# Altium schematic symbol library KitArmM0.SCHLIB: 27 symbols
Pins are listed as number, name and electrical type; pins without a type are passive.

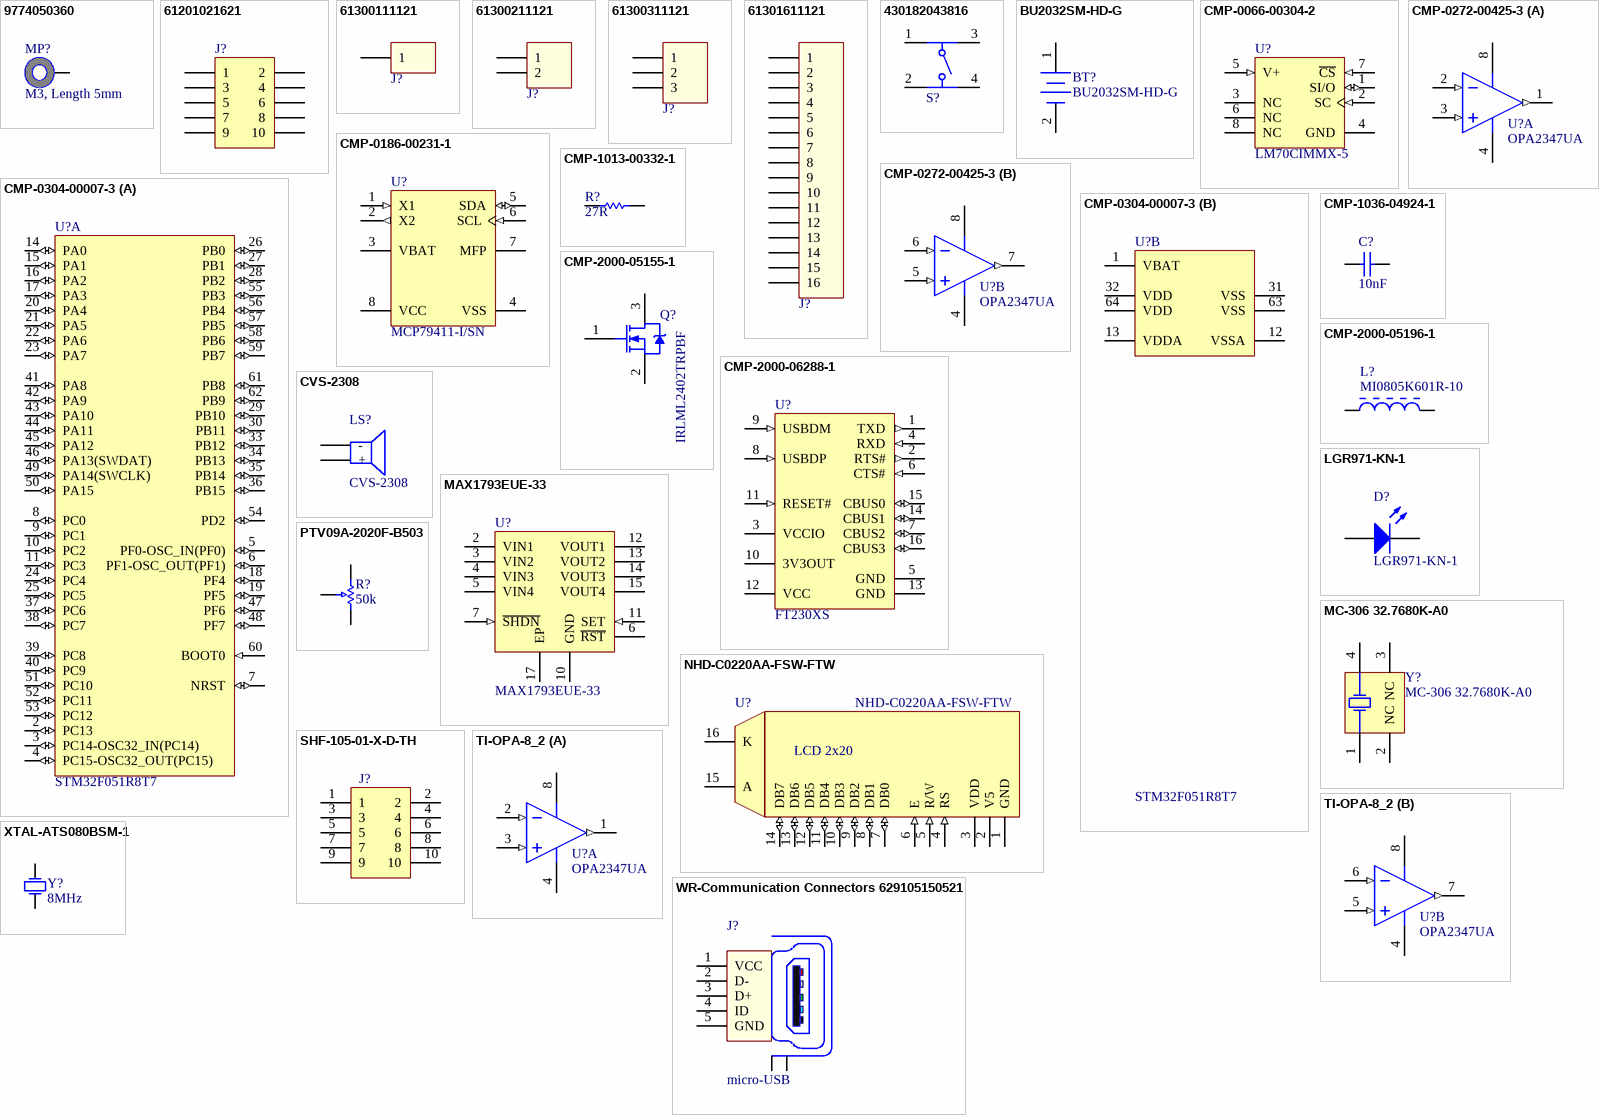
[diagram p0: symbols 9774050360 to XTAL-ATS080BSM-1]

## 9774050360
designator MP?, comment M3, Length 5mm
WA-SMSI SMT Steel Spacer, M3 Thread Internal, Length 5mm; PartNumber: 9774050360; InnerDiameter: 4.2mm; OuterDiameter: 6mm; PublishedDate: Dec. 2016; Publisher: Wurth Elektronik; ComponentLink1Description: Manufacturer; ComponentLink1URL: http://www.we-online.de; ComponentLink2Description: Datasheet; ComponentLink2URL: http://katalog.we-online.de/em/datasheet/9774050360.pdf; Length: 5mm; Thread: M3; Packaging: Bulk; Supplier: Stock ES
footprint 9774050360
pins: 1

## 61201021621
designator J?  (value not drawn)
WR-BHD 2.54mm Male Box Header; Manufacturer: Wurth Elektronik; ComponentLink1 Description: Manufacturer; ComponentLink2 Description: Datasheet; NoPins: 10; Created Date: March 2016; partNo: 61201021621; ComponentLink1URL: http://www.we-online.com; ComponentLink2URL: http://katalog.we-online.de/em/datasheet/6120xx21621.pdf; Created by: Baojun Chen; Supplier: Digikey,Stock ES
footprint 61201021621 (10 pins, straight, gold plating)
pins: 1, 2, 3, 4, 5, 6, 7, 8, 9, 10

## 61300111121
designator J?  (value not drawn)
WR-PHD 2.54 mm THT Pin Header, 1p; Pin Number: 1; Rated Current: 3 A; Working Voltage: 250 VAC; Withstanding Voltage: 500 VAC; Pitch: 2.54 mm; ComponentLink1Description: Manufacturer; ComponentLink1URL: http://www.we-online.de; ComponentLink2Description: Datasheet; ComponentLink2URL: http://katalog.we-online.de/em/datasheet/6130xx11121.pdf; Part Number: 61300111121; Published Date: Aug 2017; Publisher: Wurth Elektronik; Supplier: Stock ES
footprint 61300111121
pins: 1

## 61300211121
designator J?  (value not drawn)
WR-PHD 2.54 mm THT Pin Header, 2p; Pin Number: 2; Rated Current: 3 A; Working Voltage: 250 VAC; Withstanding Voltage: 500 VAC; Pitch: 2.54 mm; ComponentLink1Description: Manufacturer; ComponentLink1URL: http://www.we-online.de; ComponentLink2Description: Datasheet; ComponentLink2URL: http://katalog.we-online.de/em/datasheet/6130xx11121.pdf; Part Number: 61300211121; Published Date: Aug 2017; Publisher: Wurth Elektronik; Supplier: Stock ES
footprint 61300211121
pins: 1, 2

## 61300311121
designator J?  (value not drawn)
WR-PHD 2.54 mm THT Pin Header, 3p; Pin Number: 3; Rated Current: 3 A; Working Voltage: 250 VAC; Withstanding Voltage: 500 VAC; Pitch: 2.54 mm; ComponentLink1Description: Manufacturer; ComponentLink1URL: http://www.we-online.de; ComponentLink2Description: Datasheet; ComponentLink2URL: http://katalog.we-online.de/em/datasheet/6130xx11121.pdf; Part Number: 61300311121; Published Date: Aug 2017; Publisher: Wurth Elektronik; Supplier: Stock ES
footprint 61300311121
pins: 1, 2, 3

## 61301611121
designator J?  (value not drawn)
WR-PHD 2.54 mm THT Pin Header, 16p; Pin Number: 16; Rated Current: 3 A; Working Voltage: 250 VAC; Withstanding Voltage: 500 VAC; Pitch: 2.54 mm; ComponentLink1Description: Manufacturer; ComponentLink1URL: http://www.we-online.de; ComponentLink2Description: Datasheet; ComponentLink2URL: http://katalog.we-online.de/em/datasheet/6130xx11121.pdf; Part Number: 61301611121; Published Date: Aug 2017; Publisher: Wurth Elektronik; Supplier: Stock ES
footprint 61301611121
pins: 1, 2, 3, 4, 5, 6, 7, 8, 9, 10, 11, 12, 13, 14, 15, 16

## 430182043816
designator S?  (value not drawn)
WS-TASV 6x6mm Tact Switch, SMD version; Operation Force: 160g; ComponentLink1Description: Manufacturer; ComponentLink1URL: http://www.we-online.de; ComponentLink2Description: Datasheet; ComponentLink2URL: http://katalog.we-online.de/em/datasheet/4301x2xxx8x6.pdf; Part Number: 430182043816; Published Date: June 2017; Publisher: Wurth Elektronik; Life Cycle: 1000000 cycles; Size: 6x6x4.3 mm; Supplier: Stock ES
footprint 4301x20438x6_6x6x4.3 (6x6mm Tact Switch, SMD version)
pins: 1, 2, 3, 4

## BU2032SM-HD-G
designator BT?
CR2032 Battery holder; Published: 24-Mar-1999; LatestRevisionDate: 17-Jul-2002; LatestRevisionNote: Re-released for DXP Platform.; PackageReference: BAT-2; Publisher: Altium Limited; PackageDescription: Battery; 2 Leads; Supplier: Digikey,Stock ES; Supplier Ref.: BU2032SM-HD-GCT-ND; Supplier min. qty: 1; Supplier unit price: 0.87
footprint BU2032SM-HD-G (CR2032 BATTERY HOLDER)
pins: 1 +, 2 -

## CMP-0066-00304-2
designator U?, comment LM70CIMMX-5
SPI/10-Bit plus Sign Digital Temperature Sensor, 8-pin Mini SOIC; Manufacturer: National Semiconductor; PackageTopMarking: ZXTT*T03C; PowerWise: Y; CompType: Temp Sensor IC; PinCount: 8; ComponentLink1URL: http://www.national.com/ds/LM/LM70.pdf; PackageVersion: revF, Apr-2008; RevisionNote: Component URLs added; ComponentLink3Description: MUA08A Package Page; ComponentLink3URL: http://www.national.com/packaging/folders/mua08a.html; Code_JEDEC: MO-187-AA; ComponentLink2Description: LM70 Web Page; ComponentLink1Description: LM70 Datasheet; PackageReference: MUA08A; DatasheetVersion: Feb-2010; ComponentLink2URL: http://www.national.com/pf/LM/LM70.html; RoHS: N; PackageDescription: MINI SOIC, .118 x .118 x .034in, 8 Lead, .0256in Pitch; Digikey ID: LM70CIMMX-3/NOPBCT-ND; Supplier: Digikey,Stock ES; Supplier Ref.: 296-38145-1-ND; Supplier min. qty: 1; Supplier unit price: 2.81
footprint MUA08A_L (TSOP, 8-Leads, Body 3x3mm, Pitch 0.65mm, IPC High Density)
footprint MUA08A_N (TSOP, 8-Leads, Body 3x3mm, Pitch 0.65mm, IPC Medium Density)
footprint MUA08A_M (TSOP, 8-Leads, Body 3x3mm, Pitch 0.65mm, IPC Low Density)
pins: 1 SI/O (io), 2 SC (in), 3 NC, 4 GND (power), 5 V+ (in), 6 NC, 7 ~{CS} (in), 8 NC

## CMP-0186-00231-1
designator U?, comment MCP79411-I/SN
I2C Real-Time Clock/Calendar with EEPROM, SRAM, Unique ID and Battery Switchover, 8-Pin SOIC, Industrial Temperature; ComponentLink2Description: Datasheet; ComponentLink3Description: Package Specification; PackageVersion: revBB, Aug-2009; ComponentLink3URL: http://www.microchip.com/stellent/groups/techpub_sg/documents/packagingspec/en012702.pdf; ComponentLink1Description: Manufacturer URL; ComponentLink1URL: http://www.microchip.com/; ComponentLink2URL: http://ww1.microchip.com/downloads/en/DeviceDoc/22266D.pdf; Code_JEDEC: MS-012; PackageReference: SOIC-SN8; PackageDescription: 8-Lead Plastic Small Outline (SN) - Narrow, 3.90mm Body [SOIC]; DatasheetVersion: revD, Dec-2011; Code_IPC: SOIC127P600-8; Supplier: Digikey; Supplier Ref.: MCP79411-I/SN-ND; Supplier min. qty: 1; Supplier unit price: 1.01
footprint SOIC-SN8_N (SOIC, 8-Leads, Body 4.9x3.8mm, Pitch 1.27mm, IPC Medium Density)
footprint SOIC-SN8_M (SOIC, 8-Leads, Body 4.9x3.8mm, Pitch 1.27mm, IPC Low Density)
footprint SOIC-SN8_L (SOIC, 8-Leads, Body 4.9x3.8mm, Pitch 1.27mm, IPC High Density)
pins: 1 X1 (in), 2 X2 (out), 3 VBAT (power), 4 VSS (power), 5 SDA (io), 6 SCL (in), 7 MFP (oc), 8 VCC (power)

## CMP-0272-00425-3
designator U?, comment OPA2347UA
MicroPower, Rail-to-Rail Operational Amplifier, 2.3 to 5.5 V, -55 to 125 degC, 8-pin SOIC (D8), Green (RoHS & no Sb/Br); Manufacturer: Texas Instruments; Number of Channels: 2; Rating: Catalog; Sub Family: Low Input Bias Current Amp (<=10pA), Low Power Amp (<=500uA), Low Supply Voltage Amplifier (<=2.7V), Precision Amplifier; GBW(Typ)(MHz): 0.35; Iq per channel(Max)(mA): 0.034; Packing: TUBE; Total Supply Voltage(Min)(+5V is 5, +/-5V is 10): 2.3; Offset Drift(Typ)(uV/C): 3; IIB(Max)(pA): 10; Total Supply Voltage(Max)(+5V is 5, +/-5V is 10): 5.5; Slew Rate(Typ)(V/us): 0.17; CMRR(Min)(dB): 70; Vio (25C)(Max)(mV): 6; PackageVersion: 4040047-3/M, 06/2011; ComponentLink3Description: Package Specification; ComponentLink2Description: Datasheet; ComponentLink2URL: http://www.ti.com/lit/ds/symlink/opa2347.pdf; Mounting Technology: Surface Mount; ComponentLink3URL: http://www.ti.com/litv/pdf/msoi002j; PackageReference: D0008A; DatasheetVersion: SBOS167D; ComponentLink1Description: Manufacturer URL; ComponentLink1URL: http://www.ti.com/; Eco-Plan: Green (RoHS & no Sb/Br); Code_JEDEC: MS-012; PartNumber: OPA2347UA; PackageDescription: 8-Pin Plastic Small Outline, Body 4.9 x 3.9 mm, Pitch 1.27 mm; Supplier: Digikey; Supplier Ref.: OPA2347UACT-ND; Supplier min. qty: 1; Supplier unit price: 1.15
footprint D0008A_M (SOIC, 8-Leads, Body 5x4mm, Pitch 1.27mm, IPC Low Density)
footprint D0008A_L (SOIC, 8-Leads, Body 5x4mm, Pitch 1.27mm, IPC High Density)
footprint D0008A_N (SOIC, 8-Leads, Body 5x4mm, Pitch 1.27mm, IPC Medium Density)
pins on every part: 4 V- (power), 8 V+ (power)
part A pins: 1 OUT A (out), 2 IN A- (in), 3 IN A+ (in)
part B pins: 5 IN B+ (in), 6 IN B- (in), 7 OUT B (out)

## CMP-0304-00007-3
designator U?, comment STM32F051R8T7
ARM Cortex-M0 32-bit MCU, 64 KB Flash, 8 KB Internal RAM, 55 I/Os, 64-pin LQFP, -40 to 105 degC, Tray; Internal RAM Size (kB): 8; Supply Voltage(Vcc) min (V): 2; FLASH Size (Prog) (kB): 64; Operating Frequency(F) (Processor speed) (MHz): 48; I/Os (High Current): 55; ComponentLink1URL: http://www.st.com/web/en/home.html; PackageVersion: Rev. 4, 06/2013; ComponentLink3Description: Package Specification; ComponentLink2URL: http://www.st.com/st-web-ui/static/active/en/resource/technical/document/datasheet/DM00039193.pdf; Mounting Technology: Surface Mount; Core: ARM Cortex-M0; ComponentLink2Description: Datasheet; Packing: Tray; PartNumber: STM32F051R8T7; PackageReference: LQFP64; PackageDescription: 64-Pin Low Profile Quad Flat Package, 10 x 10 mm Body, 0.5 mm Pitch; DatasheetVersion: Rev. 3; ComponentLink3URL: http://www.st.com/st-web-ui/static/active/en/resource/technical/document/datasheet/DM00037051.pdf; ComponentLink1Description: Manufacturer URL; Supplier: Digikey; Supplier Ref.: 497-13628-1-ND; Supplier min. qty: 1; Supplier unit price: 3.37
footprint STM-LQFP64_M (Thin QFP, 64-Leads, Body 10x10mm, Pitch 0.5mm, IPC Low Density)
footprint STM-LQFP64_L (Thin QFP, 64-Leads, Body 10x10mm, Pitch 0.5mm, IPC High Density)
footprint STM-LQFP64_N (Thin QFP, 64-Leads, Body 10x10mm, Pitch 0.5mm, IPC Medium Density)
footprint STM-LQFP64_V (Thin QFP, 64-Leads, Body 10x10mm, Pitch 0.5mm, ST Recommended)
part A pins: 2 PC13 (io) "PC13/RTC_TAMP1,RTC_TS,RTC_OUT,WKUP2", 3 PC14-OSC32_IN(PC14) (io) "PC14-OSC32_IN(PC14)/OSC32_IN", 4 PC15-OSC32_OUT(PC15) (io) "PC15-OSC32_OUT(PC15)/OSC32_OUT", 5 PF0-OSC_IN(PF0) (io) "PF0-OSC_IN(PF0)/OSC_IN", 6 PF1-OSC_OUT(PF1) (io) "PF1-OSC_OUT(PF1)/OSC_OUT", 7 NRST (io) "Device reset input / internal reset output (active low)", 8 PC0 (io) "PB15/SPI2_MOSI,TIM1_CH3N,TIM15_CH1N,TIM15_CH2/RTC_REFIN", 9 PC1 (io) "PC1/EVENTOUT/ADC_IN11", 10 PC2 (io) "PC2/EVENTOUT/ADC_IN12", 11 PC3 (io) "PC3/EVENTOUT/ADC_IN13", 14 PA0 (io) "PA0/USART2_CTS,TIM2_CH1_ETR,COMP1_OUT,TSC_G1_IO1/ADC_IN0,COMP1_INM6,RTC_TAMP2,WKUP1", 15 PA1 (io) "PA1/USART2_RTS,TIM2_CH2,TSC_G1_IO2,EVENTOUT/ADC_IN1,COMP1_INP", 16 PA2 (io) "PA2/USART2_TX,TIM2_CH3,TIM15_CH1,COMP2_OUT,TSC_G1_IO3/ADC_IN2,COMP2_INM6", 17 PA3 (io) "PA3/USART2_RX,TIM2_CH4,TIM15_CH2,TSC_G1_IO4/ADC_IN3,COMP2_INP", 18 PF4 (io) "PF4/EVENTOUT", 19 PF5 (io) "PF5/EVENTOUT", 20 PA4 (io) "PA4/SPI1_NSS/I2S1_WS,USART2_CK,TIM14_CH1,TSC_G2_IO1/ADC_IN4,COMP1_INM4,COMP2_INM4,DAC1_OUT", 21 PA5 (io) "PA5/SPI1_SCK/I2S1_CK,CEC,TIM2_CH1_ETR,TSC_G2_IO2/ADC_IN5,COMP1_INM5,COMP2_INM5", 22 PA6 (io) "PA6/SPI1_MISO/I2S1_MCK,TIM3_CH1,TIM1_BKIN,TIM16_CH1,COMP1_OUT,TSC_G2_IO3,EVENTOUT/ADC_IN6", 23 PA7 (io) "PA7/SPI1_MOSI/I2S1_SD,TIM3_CH2,TIM14_CH1,TIM1_CH1N,TIM17_CH1,COMP2_OUT,TSC_G2_IO4,EVENTOUT/ADC_IN7", 24 PC4 (io) "PC4/EVENTOUT/ADC_IN14", 25 PC5 (io) "PC5/TSC_G3_IO1/ADC_IN15", 26 PB0 (io) "PB0/TIM3_CH3,TIM1_CH2N,TSC_G3_IO2,EVENTOUT/ADC_IN8", 27 PB1 (io) "PB1/TIM3_CH4,TIM14_CH1,TIM1_CH3N,TSC_G3_IO3/ADC_IN9", 28 PB2 (io) "PB2/TSC_G3_IO4", 29 PB10 (io) "PB10/I2C2_SCL,CEC,TIM2_CH3,TSC_SYNC", 30 PB11 (io) "PB11/I2C2_SDA,TIM2_CH4,TSC_G6_IO1,EVENTOUT", 33 PB12 (io) "PB8/I2C1_SCL,CEC,TIM16_CH1,TSC_SYNC", 34 PB13 (io) "PB12/SPI2_NSS,TIM1_BKIN,TSC_G6_IO2,EVENTOUT", 35 PB14 (io) "PB13/SPI2_SCK,TIM1_CH1N,TSC_G6_IO3", 36 PB15 (io) "PB14/SPI2_MISO,TIM1_CH2N,TIM15_CH1,TSC_G6_IO4", 37 PC6 (io) "PC6/TIM3_CH1", 38 PC7 (io) "PC7/TIM3_CH2", 39 PC8 (io) "PC8/TIM3_CH3", 40 PC9 (io) "PC9/TIM3_CH4", 41 PA8 (io) "PA8/USART1_CK,TIM1_CH1,EVENTOUT,MCO", 42 PA9 (io) "PA9/USART1_TX,TIM1_CH2,TIM15_BKIN,TSC_G4_IO1", 43 PA10 (io) "PA10/USART1_RX,TIM1_CH3,TIM17_BKIN,TSC_G4_IO2", 44 PA11 (io) "PA11/USART1_CTS,TIM1_CH4,COMP1_OUT,TSC_G4_IO3,EVENTOUT", 45 PA12 (io) "PA12/USART1_RTS,TIM1_ETR,COMP2_OUT,TSC_G4_IO4,EVENTOUT", 46 PA13(SWDAT) (io) "PA13(SWDAT)/IR_OUT,SWDAT", 47 PF6 (io) "PF6/I2C2_SCL", 48 PF7 (io) "PF7/I2C2_SDA", 49 PA14(SWCLK) (io) "PA14(SWCLK)/USART2_TX,SWCLK", 50 PA15 (io) "PA15/SPI1_NSS/I2S1_WS,USART2_RX,TIM2_CH1_ETR,EVENTOUT", 51 PC10 (io), 52 PC11 (io), 53 PC12 (io), 54 PD2 (io) "PD2/TIM3_ETR", 55 PB3 (io) "PB3/SPI1_SCK/I2S1_CK,TIM2_CH2,TSC_G5_IO1,EVENTOUT", 56 PB4 (io) "PB4/SPI1_MISO/I2S1_MCK,TIM3_CH1,TSC_G5_IO2,EVENTOUT", 57 PB5 (io) "PB5/SPI1_MOSI,I2S1_SD,I2C1_SMBA,TIM16_BKIN,TIM3_CH2", 58 PB6 (io) "PB6/I2C1_SCL,USART1_TX,TIM16_CH1N,TSC_G5_IO3", 59 PB7 (io) "PB7/I2C1_SDA,USART1_RX,TIM17_CH1N,TSC_G5_IO4", 60 BOOT0 (in) "Boot memory selection", 61 PB8 (io) "PB8/I2C1_SCL,CEC,TIM16_CH1,TSC_SYNC", 62 PB9 (io) "PB9/I2C1_SDA,IR_OUT,TIM17_CH1,EVENTOUT"
part B pins: 1 VBAT (power) "Backup power supply", 12 VSSA (power) "Analog ground", 13 VDDA (power) "Analog power supply", 31 VSS (power) "Ground", 32 VDD (power) "Digital power supply", 63 VSS (power) "Ground", 64 VDD (power) "Digital power supply"

## CMP-1013-00332-1
designator R?, comment value 27R  (hidden comment: 27R 1% 0805(2012))  (mechanical)
27R 0.125W 1% 0805 (2012 Metric)  SMD; Case-EIA: 0805; Case-Metric: 2012; Power: 0.125 W; Tolerance: 1 %; Technology: SMT; Supplier: Stock ES
footprint RESC0805(2012)_N (Chip Resistor, Body 2.0x1.3mm, IPC Medium Density)
footprint RESC0805(2012)_L (Chip Resistor, Body 2.0x1.3mm, IPC High Density)
footprint RESC0805(2012)_M (Chip Resistor, Body 2.0x1.3mm, IPC Low Density)
pins: 1, 2
1 alternate drawing of the same symbol

## CMP-1036-04924-1
designator C?, comment value 10nF  (hidden comment: CAP 10nF 10V 0805(2012))
CAP 10nF 10V ±20% 0805 (2012 Metric) Thickness 1.45mm SMD; Case-EIA: 0805; Case-Metric: 2012; Tolerance: Â±20%; Rated Voltage: 10 V; Max Thickness: 1.45 mm; Technology: SMT; Supplier: Stock ES
footprint CAPC0805(2012)145_N (Chip Capacitor, Body 2.0x1.2mm, Height 1.45mm, IPC Medium Density)
footprint CAPC0805(2012)145_M (Chip Capacitor, Body 2.0x1.2mm, Height 1.45mm, IPC Low Density)
footprint CAPC0805(2012)145_L (Chip Capacitor, Body 2.0x1.2mm, Height 1.45mm, IPC High Density)
pins: 1, 2
1 alternate drawing of the same symbol

## CMP-2000-05155-1
designator Q?, comment IRLML2402TRPBF
HEXFET(R) Power MOSFET, N-Channel, 20 V, 1.2 A, 3-Pin SOT-23, RoHS, Tape and Reel; Manufacturer: International Rectifier; Voltage Vgs Rds on Measurement: 4.5V; Current Id Max: 1.2A; External Width: 3.05mm; Transistor Polarity: NChannel; No. of Pins: 3; Power Dissipation Pd: 540mW; External Length / Height: 1.12mm; Full Power Rating Temperature: 25degC; On Resistance Rds(on): 250mohm; Voltage Vds Typ: 20V; SMD Marking: 1A; No. of Transistors: 1; Reel Quantity: 3000; External Depth: 2.5mm; Pulse Current Idm: 7.4A; Junction Temperature Tj Min: -55degC; Threshold Voltage Vgs Typ: 700mV; SVHC: NoSVHC(19-Dec-2012); Datasheet URL: https://datasheet.ciiva.com/29326/162826-da-01-en-irlml-2402tr-29326791.pdf; Tape Width: 8mm; Operating Temperature Range: -55degCto+150degC; Manufacturer URL: http://internationalrectifier.com/; Termination Type: SMD; Datasheet Version: Jan-03; Current Temperature: 25degC; Package / Case: SOT-23; Drain Source Voltage Vds: 20V; Rds(on) Test Voltage Vgs: 4.5V; Continuous Drain Current Id: 1.2A; Transistor Case Style: SOT-23; Voltage Vgs th Min: 700mV; Voltage Vgs Max: 700mV; Supplier: Digikey,Stock ES; Supplier Ref.: IRLML2402PBFCT-ND; Supplier min. qty: 1; Supplier unit price: 0.54
footprint INTR-IRLML2402TRPBF-3_V (SOT23, 3-Leads, Body 3.05x1.4mm, Pitch 0.95mm)
pins: 1 G, 2 S, 3 D

## CMP-2000-05196-1
designator L?, comment MI0805K601R-10
Chip Bead for Power Filtering, 1500 mA, 600 Ohm, -40 to 125 degC, 0805 (2012 Metric), RoHS, Tape and Reel; Manufacturer: Laird; Filter Type: PowerLine; Current Rating (Max): 1.5A; Catalog Drawings: (HI,HZ,LI,MI)0805Series_1.10mmMax.Height; Impedance @ Frequency: 600Ohm@100MHz; Number of Lines: 1; DC Resistance (DCR) (Max): 100mOhm; Other Names: 240-2390-1; Kits: 240-2227-ND-KITEMIFERRITEBEADCHIPSMD; Online Catalog: MISeries; Standard Package: 1; Datasheet Version: Rev. A, 01/2004; Height (Max): 0.043"(1.10mm); Category: Filters; Operating Temperature: -40degC~125degC; Package Description: 2-Pin Surface Mount Device, Body 2 x 1.25 mm; Package / Case: 0805(2012Metric); Package Reference: MI0805K601R-10-2; Packaging: CutTape(CT); Ratings: -; Mounting Type: SurfaceMount; Datasheet URL: https://datasheet.ciiva.com/3082/mi0805k601r-10-a-vp-3082219.pdf; Size / Dimension: 0.079"Lx0.049"W(2.00mmx1.25mm); Family: FerriteBeadsandChips; Manufacturer URL: https://www.lairdtech.com; Series: MI; Supplier: Digikey; Supplier Ref.: 240-2390-1-ND; Supplier min. qty: 1; Supplier unit price: 0.11
footprint LIRD-MI0805K601R-10-2_V (Chip Bead, 2-Leads, Body 2.2 x1.45 mm)
pins: 1, 2

## CMP-2000-06288-1
designator U?, comment FT230XS
USB to Basic UART IC, 2.97 to 5.5 V, -40 to 85 degC, 16-Pin SSOP, RoHS; Manufacturer: FTDI; Data Rate: 3Mbaud; USB Standard: USB2.0; USB Type: Transceiver; No. of Pins: 16Pins; Supply Voltage Max: 5.5V; SVHC: NoSVHC(17-Dec-2015); Supply Voltage Min: 2.97V; MSL: MSL3-168hours; Datasheet Version: Rev. 1.4, 05/2016; Interface Case Style: SSOP; Datasheet URL: http://www.ftdichip.com/Support/Documents/DataSheets/ICs/DS_FT230X.pdf; Packaging: CutTape; Package Description: 16-Pin Shrink Small Outline Package Integrated Circuit, Body 4.9 x 3.9 mm, Pitch 0.635 mm; Operating Temperature Min: -40°C; Mounting Technology: SurfaceMount; Package Reference: SSOP-16; Manufacturer URL: http://www.ftdichip.com/; Product Range: -; Operating Temperature Max: 85°C; No. of Ports: -; Supplier: Digikey; Supplier Ref.: 768-1135-1-ND; Supplier min. qty: 1; Supplier unit price: 2.00
footprint FTDI-SSOP-16_L (SOP, 16-Leads, Body 5x4mm, Pitch 0.635mm, IPC High Density)
footprint FTDI-SSOP-16_M (SOP, 16-Leads, Body 5x4mm, Pitch 0.635mm, IPC Low Density)
footprint FTDI-SSOP-16_N (SOP, 16-Leads, Body 5x4mm, Pitch 0.635mm, IPC Medium Density)
pins: 1 TXD (out) "Transmit Asynchronous Data Output.", 2 RTS# (out) "Request to Send Control Output / Handshake Signal.", 3 VCCIO (power) "1V8 - 3V3 supply for the IO cells", 4 RXD (in) "Receiving Asynchronous Data Input.", 5 GND (power) "0V Ground input.", 6 CTS# (in) "Clear To Send Control Input / Handshake Signal.", 7 CBUS2 (io) "Configurable CBUS I/O Pin.", 8 USBDP (in) "USB Data Signal Plus.", 9 USBDM (in) "USB Data Signal Minus.", 10 3V3OUT (power) "3V3 output at 50mA. May be used to power VCCIO.", 11 RESET# (in) "Reset input (active low).", 12 VCC (power) "5 V (or 3V3) supply to IC", 13 GND (power) "0V Ground input.", 14 CBUS1 (io) "Configurable CBUS I/O Pin.", 15 CBUS0 (io) "Configurable CBUS I/O Pin.", 16 CBUS3 (io) "Configurable CBUS I/O Pin."

## CVS-2308
designator LS?
Loudspeaker THT CVS-2308; Published: 24-Mar-1999; LatestRevisionDate: 17-Jul-2002; LatestRevisionNote: Re-released for DXP Platform.; PackageReference: CVS-2308; Publisher: Altium Limited; Supplier: Digikey; Supplier Ref.: 102-2500-ND; Supplier min. qty: 1; Supplier unit price: 2.80
footprint CVS-2308 (Loudspeaker THT CVS-2308)
pins: 1 -, 2 +

## LGR971-KN-1
designator D?
SMD mono-color Chip LED, 0805, Green; Manufacturer: Wuerth Elektronik; PackageReference: 0805_A; Color: Green; PartNumber: LGR971-KN-1; ComponentLink1Description: Manufacturer URL; ComponentLink2Description: Datasheet; Supplier: Stock ES
footprint LED_0805 (Footprint not found)
pins: 1 K, 2 A

## MAX1793EUE-33
designator U?
MAX1793 linear regulator 3.3V; PackageDescription: TSSOP16+exposed pad; ComponentLink3Description: Package Specification; PackageReference: http://pdfserv.maxim-ic.com/package_dwgs/21-0108.PDF; ComponentLink1URL: http://www.maxim-ic.com; ComponentLink2Description: Datasheet; Code_JEDEC: MO-178-AB; ComponentLink2URL: https://datasheets.maximintegrated.com/en/ds/MAX1793.pdf; ComponentLink1Description: Manufacturer URL; Supplier: Digikey,Stock ES; Supplier Ref.: MAX1793EUE33+-ND; Supplier min. qty: 1; Supplier unit price: 3.88
footprint TSOP65P640X110_HS-17N (TSOP, 16-Leads, Body 5.00x4.40mm, Pitch 0.65mm, Thermal Pad 3.07x3.07mm, IPC Medium Density)
pins: 1 NC hidden, 2 VIN1 (power), 3 VIN2 (power), 4 VIN3 (power), 5 VIN4 (power), 6 ~{RST} (oc), 7 ~{SHDN} (in), 8 NC hidden, 9 NC hidden, 10 GND (power), 11 SET (in), 12 VOUT1, 13 VOUT2, 14 VOUT3, 15 VOUT4, 16 NC hidden, 17 EP

## MC-306 32.7680K-A0
designator Y?
Crystal, 32.768 kHz, 12.5 pF, 50 KOhm, -40 to 85 degC, 4-Pin SMD, RoHS, Tape and Reel; Manufacturer: Epson; Operating Mode: Fundamental; Other Names: MC-30632.7680K-A0:ROHS / MC-30632.7680K-A0:ROHS-ND / SER2407TR; Load Capacitance: 12.5pF; Dynamic Catalog: MC-306,MC-405andMC-406Series; Product Training Modules: Crystals; Catalog Drawings: MC-306SeriesSide / MC-306SeriesTop / MC-306SeriesCircuit; ESR (Equivalent Series Resistance): 55kOhm; Frequency Tolerance: ±20ppm; Package / Case: 4-SOJ,5.50mmpitch; Family: Crystals; Datasheet URL: https://support.epson.biz/td/api/doc_check.php?dl=brief_MC-306_en.pdf; Mounting Technology: SurfaceMount; Package Reference: MC-306; Operating Temperature: -40°C~85°C; Category: CrystalsandOscillators; Series: MC-306; Type: kHzCrystal(TuningFork); Manufacturer URL: https://www.eea.epson.com/; Frequency: 32.768kHz; Datasheet Version: 01/2014; Packaging: Tape&Reel(TR); Standard Package: 1,000; Package Description: 4-Pin Surface Mount Device, Body 8 x 3.2 mm; Mounting Type: SurfaceMount; Supplier: Digikey; Supplier Ref.: SER2407CT-ND; Supplier min. qty: 1; Supplier unit price: 0.55
footprint EPSON-MC-306_V (SMD, 4-Leads, Body 8x3.2mm)
pins: 1 X1, 2 NC, 3 NC, 4 X2

## NHD-C0220AA-FSW-FTW
designator U?
LCD Alphanumeric 2x20; Digikey ID: NHD-C0220AA-FSW-FTW-ND; Supplier: Digikey; Supplier Ref.: NHD-C0220AA-FSW-FTW-ND; Supplier min. qty: 1; Supplier unit price: 10.05
footprint NHD-C0220AA-FSW-FTW (Footprint not found)
pins: 1 GND (power), 2 V5 (power), 3 VDD (power), 4 RS (in), 5 R/W (in), 6 E (in), 7 DB0 (io), 8 DB1 (io), 9 DB2 (io), 10 DB3 (io), 11 DB4 (io), 12 DB5 (io), 13 DB6 (io), 14 DB7 (io), 15 A, 16 K
text: LCD 2x20

## PTV09A-2020F-B503
designator R?, comment 50k
Bourns potentiometer PTV09A-2020F-B503; Manufacturer_Part_Number: PTV09A-2015F-B103; Vendor: Bourns Electronics; HEADER_SECTION: Passives; HEADER_GROUP: Resistors; R-S_Number: 7377818; Tolerance: 20%; Voltage: Unknown; C: Copyright (C) 2015 Accelerated Designs. All rights reserved; Manufacturer_Name: Bourns Electronics; Mounting: Bracket Mount; Value: 50k; Package/Case: Unknown; Current_Rating: Unknown; Copyright: Copyright (C) 2015 Accelerated Designs. All rights reserved; Supplier: Digikey; Supplier Ref.: PTV09A-2020F-B503; Supplier min. qty: 1; Supplier unit price: 0.81
footprint POT_PTV09A-2
pins: 1, 2, 3

## SHF-105-01-X-D-TH
designator J?  (value not drawn)
0.05"X0.05" SHROUDED TERMINAL STRIP.; MANUFACTURER: SAMTEC; CREATED: June 16, 2016 - Wendy Xin; PCB DECAL: SHF-105-01-X-D-TH; Supplier: Digikey; Supplier Ref.: SAM10711-ND; Supplier min. qty: 1; Supplier unit price: 2.65
footprint SHF-105-01-X-D-TH (Footprint not found)
pins: 1, 2, 3, 4, 5, 6, 7, 8, 9, 10

## TI-OPA-8_2
designator U?, comment OPA2347UA
MicroPower, Rail-to-Rail Operational Amplifier, 2.3 to 5.5 V, -55 to 125 degC, 8-pin SOIC (D8), Green (RoHS & no Sb/Br); Manufacturer: Texas Instruments; Number of Channels: 2; Rating: Catalog; Sub Family: Low Input Bias Current Amp (<=10pA), Low Power Amp (<=500uA), Low Supply Voltage Amplifier (<=2.7V), Precision Amplifier; GBW(Typ)(MHz): 0.35; Iq per channel(Max)(mA): 0.034; Packing: TUBE; Total Supply Voltage(Min)(+5V is 5, +/-5V is 10): 2.3; Offset Drift(Typ)(uV/C): 3; IIB(Max)(pA): 10; Total Supply Voltage(Max)(+5V is 5, +/-5V is 10): 5.5; Slew Rate(Typ)(V/us): 0.17; CMRR(Min)(dB): 70; Vio (25C)(Max)(mV): 6; PackageVersion: 4040047-3/M, 06/2011; ComponentLink3Description: Package Specification; ComponentLink2Description: Datasheet; ComponentLink2URL: http://www.ti.com/lit/ds/symlink/opa2347.pdf; Mounting Technology: Surface Mount; ComponentLink3URL: http://www.ti.com/litv/pdf/msoi002j; PackageReference: D0008A; DatasheetVersion: SBOS167D; ComponentLink1Description: Manufacturer URL; ComponentLink1URL: http://www.ti.com/; Eco-Plan: Green (RoHS & no Sb/Br); Code_JEDEC: MS-012; PartNumber: OPA2347UA; PackageDescription: 8-Pin Plastic Small Outline, Body 4.9 x 3.9 mm, Pitch 1.27 mm; Supplier: Digikey; Supplier Ref.: OPA2347UACT-ND; Supplier min. qty: 1; Supplier unit price: 1.15
footprint D0008A_M (SOIC, 8-Leads, Body 5x4mm, Pitch 1.27mm, IPC Low Density)
footprint D0008A_L (SOIC, 8-Leads, Body 5x4mm, Pitch 1.27mm, IPC High Density)
footprint D0008A_N (SOIC, 8-Leads, Body 5x4mm, Pitch 1.27mm, IPC Medium Density)
pins on every part: 4 V- (power), 8 V+ (power)
part A pins: 1 OUT A (out), 2 IN A- (in), 3 IN A+ (in)
part B pins: 5 IN B+ (in), 6 IN B- (in), 7 OUT B (out)

## WR-Communication Connectors 629105150521
designator J?, comment micro-USB
WR-COM_USB_Micro Type B_Horizontal_SMT; Manufacturer: Würth Elektronik eiSos GmbH; partNo: 629105150521; ComponentLink1 Description: Manufacturer; ComponentLink2 Description: Datasheet; NoPins: 5; ComponentLink1URL: http://www.we-online.de; ComponentLink2URL: http://katalog.we-online.de/em/datasheet/629105150521.pdf; Created by: Karrer Zheng; Created Date: 10/21/2014; Supplier: Digikey; Supplier Ref.: 732-5960-1-ND; Supplier min. qty: 1; Supplier unit price: 2.03
footprint 629105150521
pins: 1 VCC, 2 D-, 3 D+, 4 ID, 5 GND, Z1 Shield, Z2 Shield

## XTAL-ATS080BSM-1
designator Y?, comment Frequency: 8MHz  (hidden comment: ATS080BSM-1)
8 MHz; Manufacturer: CTS-Frequency Controls; Series Resistance: 60Ohm; Load Capacitance: 18pF; Tolerance: 30ppm; Frequency Stability: 50ppm; Package Reference: HC49/US-SM; Mount: SurfaceMount; Packaging: TapeandReel; Termination: SMD/SMT; Number of Pins: 2; Min Operating Temperature: -20degC; Package Quantity: 1000; RoHSCompliant: True; Lead Free: LeadFree; Case/Package: SMD/SMT; Max Operating Temperature: 70degC; REACH SVHC: NoSVHC; Package Description: 2-Pin Surface Mount Device, Body 5 x 11.7 mm; ESR (Equivalent Series Resistance): 60Ohm; Frequency Tolerance: 30ppm; Radiation Hardening: No; Supplier: Digikey,Stock ES; Supplier Ref.: CTX884CT-ND; Supplier min. qty: 1; Supplier unit price: 0.39
footprint HC-49/US-SM (Footprint not found)
pins: 1, 2